# EAGLE library part UC3842 (library TABOR K1)
V-regulátor pre impulzné zdroje
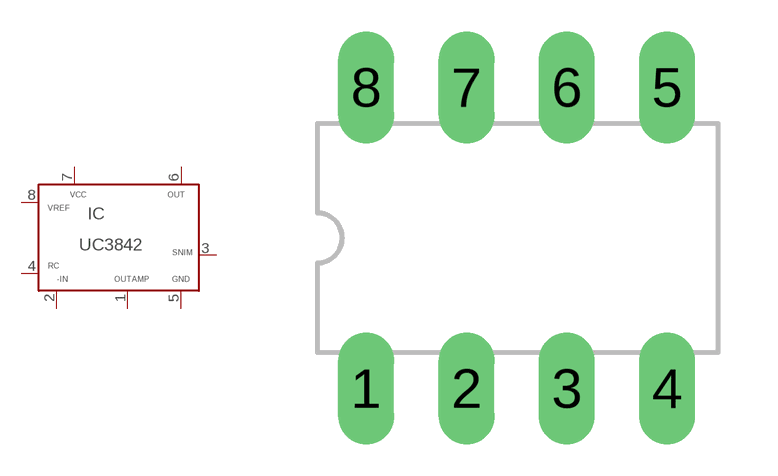
[diagram p1: symbol with the pads of DIL08; footprint DIL08]

Designator prefix IC

## UC3842-N  [DIL08]
1  OUTAMP  out
2  -IN  in
3  SNIM  in
4  RC  pas
5  GND  pwr
6  OUT  out
7  VCC  pwr
8  UREF  out

## Footprint DIL08 (pad centres in mm)
Púzdro DIL08 : diera s pokovenim = 0,6 mm, vrtanie = 0,8mm
drill 0.813 pad 1.422 long: 1 -3.81,-3.81; 2 -1.27,-3.81; 3 1.27,-3.81; 4 3.81,-3.81; 5 3.81,3.81; 6 1.27,3.81; 7 -1.27,3.81; 8 -3.81,3.81